# Altium footprint library DIOM5436X245N.PcbLib: 2 footprints
Each footprint in its own frame and in the unit in brackets; x right, y up, seen from the top. Pads: shape width x height; smd on the part's side, far side on the other; paste and mask are expansions set on the pad; w line width, h text height; cw(c..) or ccw(c..) is an arc to the next point about the centre after c.
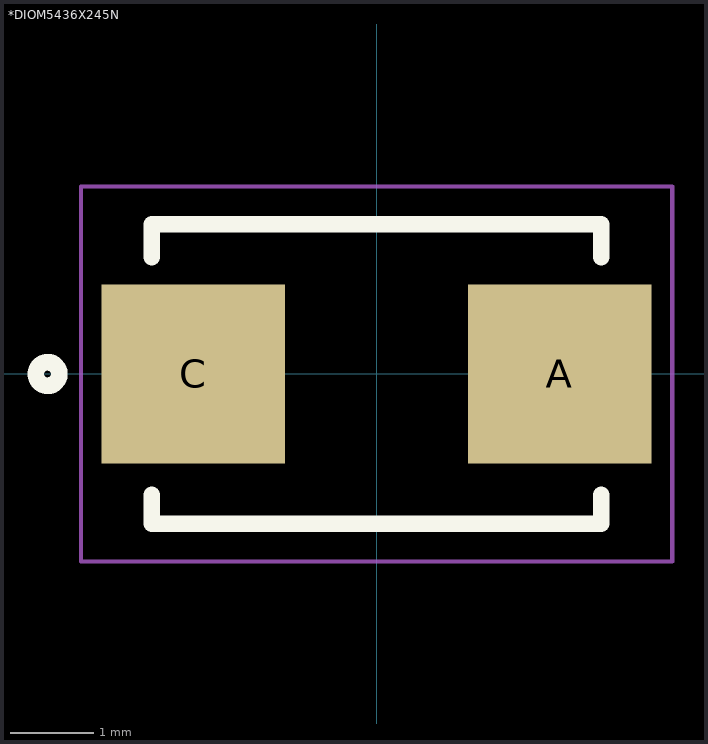
[diagram p0: the footprints below, top view; thin cyan lines are the x and y axes]

## *DIOM5436X245N [mm]
pads (2):
  rect 2.2x2.15 smd: A(2.2,0) C(-2.2,0)
Top Overlay:
  circle w0.2: c-3.95,0 r0.141
  lines w0.2: -2.7,-1.45 -2.7,-1.8 2.7,-1.8 2.7,-1.45 ; -2.7,1.4 -2.7,1.8 2.7,1.8 2.7,1.4
Mechanical 16:
  lines w0.05: -3.55,-2.25 -3.55,2.25 3.55,2.25 3.55,-2.25 -3.55,-2.25

## PCBComponent_1 [mm]